# EAGLE library part HCNR200 (library all-chips)
HCNR200 Broadcom Limited High-Linearity Analog Optocoupler
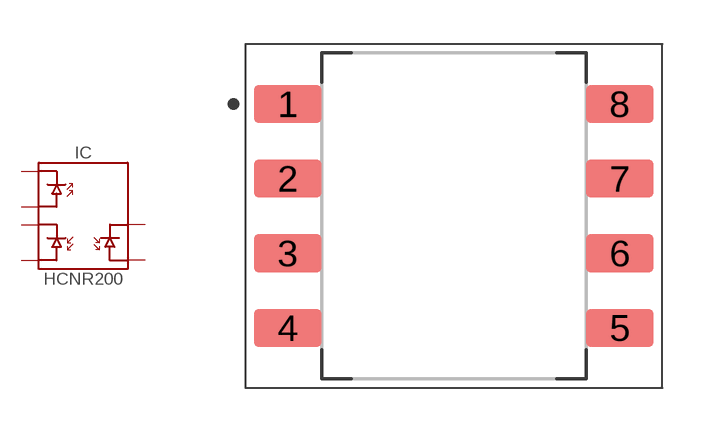
[diagram p38: symbol with the pads of DIPGW8_11.15X9.00MM; footprint DIPGW8_11.15X9.00MM]

Designator prefix IC

## HCNR200  [DIPGW8_11.15X9.00MM]
1  LED_CA  pas
2  LED_AN  pas
3  PD1_CA  pas
4  PD1_AN  pas
5  PD2_AN  pas
6  PD2_CA  pas

## Footprint DIPGW8_11.15X9.00MM (pad centres in mm)
https://docs.broadcom.com/doc/HCNR200-HCNR201-High-Linearity-Analog-Optocouplers-DS
smd 2.29 x 1.3: 1 -5.65,3.81; 2 -5.65,1.27; 3 -5.65,-1.27; 4 -5.65,-3.81; 5 5.65,-3.81; 6 5.65,-1.27; 7 5.65,1.27; 8 5.65,3.81